# EAGLE library part LPC810 (library carrilib)
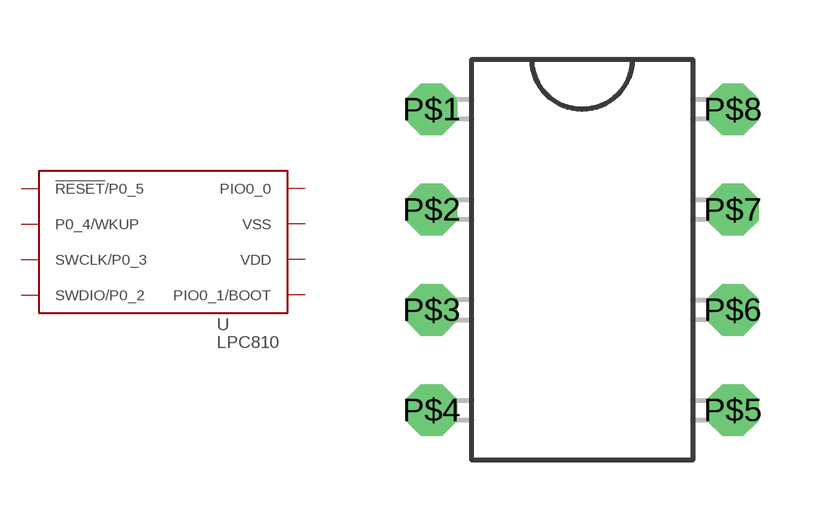
[diagram p30: symbol with the pads of DIP8; footprint DIP8]

Designator prefix -

## LPC810M021FN8  [DIP8]
P$1  !RESET!/P0_5
P$2  P0_4/WKUP
P$3  SWCLK/P0_3
P$4  SWDIO/P0_2
P$5  PIO0_1/BOOT
P$6  VDD
P$7  VSS
P$8  PIO0_0

## Footprint DIP8 (pad centres in mm)
drill 0.8 octagon: P$1 -3.81,3.81; P$2 -3.81,1.27; P$3 -3.81,-1.27; P$4 -3.81,-3.81; P$5 3.81,-3.81; P$6 3.81,-1.27; P$7 3.81,1.27; P$8 3.81,3.81